# EAGLE library part ADS124S06IRHBR (library maholli)
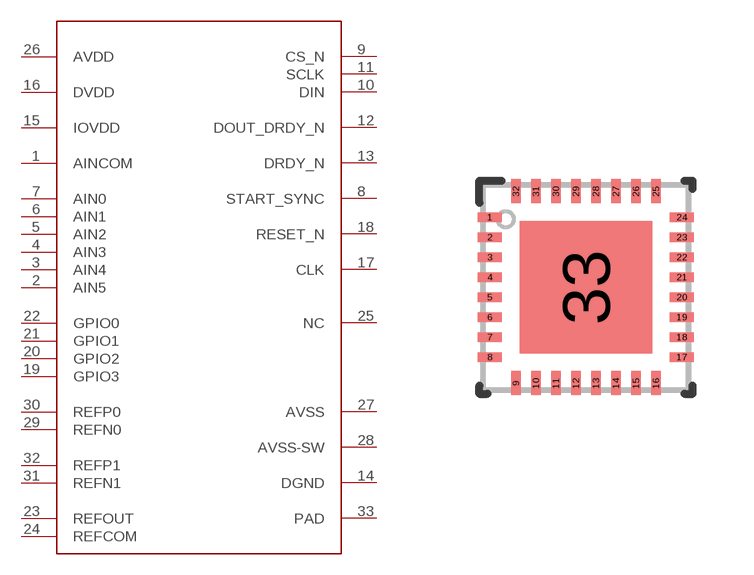
[diagram p14: symbol with the pads of RHB0032H; footprint RHB0032H]

Designator prefix U

## ADS124S06IRHBR (MANUFACTURER: Texas Instruments; PARTNUMBER: ADS124S06IRHBR; REFDES: RefDes; TYPE: TYPE; VALUE: Value)  [RHB0032H]
1  AINCOM  in
2  AIN5  in
3  AIN4  in
4  AIN3  in
5  AIN2  in
6  AIN1  in
7  AIN0  in
8  START_SYNC  in
9  CS_N  in
10  DIN  in
11  SCLK  in
12  DOUT_DRDY_N  out
13  DRDY_N  out
14  DGND  pwr
15  IOVDD  pwr
16  DVDD  pwr
17  CLK  in
18  RESET_N  in
19  GPIO3
20  GPIO2
21  GPIO1
22  GPIO0
23  REFOUT  out
24  REFCOM  out
25  NC  pas
26  AVDD  pwr
27  AVSS  pwr
28  AVSS-SW  pwr
29  REFN0  in
30  REFP0  in
31  REFN1  in
32  REFP1  in
33  PAD  pwr

## Footprint RHB0032H (pad centres in mm)
smd 0.6 x 0.24: 1 -2.4,1.75; 2 -2.4,1.25; 3 -2.4,0.75; 4 -2.4,0.25; 5 -2.4,-0.25; 6 -2.4,-0.75; 7 -2.4,-1.25; 8 -2.4,-1.75; 17 2.4,-1.75; 18 2.4,-1.25; 19 2.4,-0.75; 20 2.4,-0.25; 21 2.4,0.25; 22 2.4,0.75; 23 2.4,1.25; 24 2.4,1.75
smd 0.24 x 0.6: 9 -1.75,-2.4; 10 -1.25,-2.4; 11 -0.75,-2.4; 12 -0.25,-2.4; 13 0.25,-2.4; 14 0.75,-2.4; 15 1.25,-2.4; 16 1.75,-2.4; 25 1.75,2.4; 26 1.25,2.4; 27 0.75,2.4; 28 0.25,2.4; 29 -0.25,2.4; 30 -0.75,2.4; 31 -1.25,2.4; 32 -1.75,2.4
smd 3.3 x 3.3: 33 0,0